# EAGLE library part M20-9991546 (library M20-9991546)
2.54mm (0.1") Pitch SIL Vertical Throughboard Pin Header, 6.1mm mating pin height, tin, 15 contacts Source: Datasheet <https://cdn.harwin.com/pdfs/M20-999.pdf>
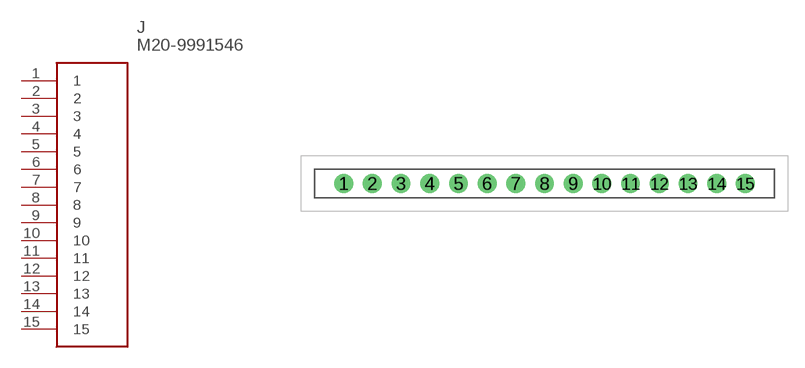
[diagram p0: symbol with the pads of M20-9991546; footprint M20-9991546]

Designator prefix J

## M20-9991546 (Description: 2.54mm (0.1") Pitch SIL Vertical Throughboard Pin Header, 6.1mm mating pin height, tin, 15 contacts; Height: 8.74mm; Manufacturer_Name: Harwin; Manufacturer_Part_Number: M20-9991546; Mouser_Part_Number: 855-M20-9991546; Mouser_Price-Stock: https://www.mouser.co.uk/ProductDetail/Harwin/M20-9991546?qs=WS5Jv%252B%252Bx1qX3IVqZ80aaDQ%3D%3D)  [M20-9991546]
1  1
2  2
3  3
4  4
5  5
6  6
7  7
8  8
9  9
10  10
11  11
12  12
13  13
14  14
15  15

## Footprint M20-9991546 (pad centres in mm)
M20-9991546
drill 1.11 pad 1.65: 1 0,0; 2 2.54,0; 3 5.08,0; 4 7.62,0; 5 10.16,0; 6 12.7,0; 7 15.24,0; 8 17.78,0; 9 20.32,0; 10 22.86,0; 11 25.4,0; 12 27.94,0; 13 30.48,0; 14 33.02,0; 15 35.56,0